# Altium schematic symbol library LP2992-3.3V.SchLib: 1 symbol
Pins are listed as number, name and electrical type; pins without a type are passive.

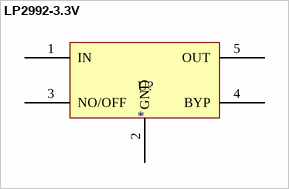
[diagram p0: symbol LP2992-3.3V]

## LP2992-3.3V
designator U?
footprint SOT-23-5 (SOT23, 5-Leads, Body 2.9x1.6mm, Pitch 0.95mm, IPC Medium Density)
pins: 1 IN, 2 GND, 3 NO/OFF, 4 BYP, 5 OUT